# Altium footprint library PinHeaderMale.PcbLib: 4 footprints
Each footprint in its own frame and in the unit in brackets; x right, y up, seen from the top. Pads: shape width x height; smd on the part's side, far side on the other; paste and mask are expansions set on the pad; w line width, h text height; cw(c..) or ccw(c..) is an arc to the next point about the centre after c.
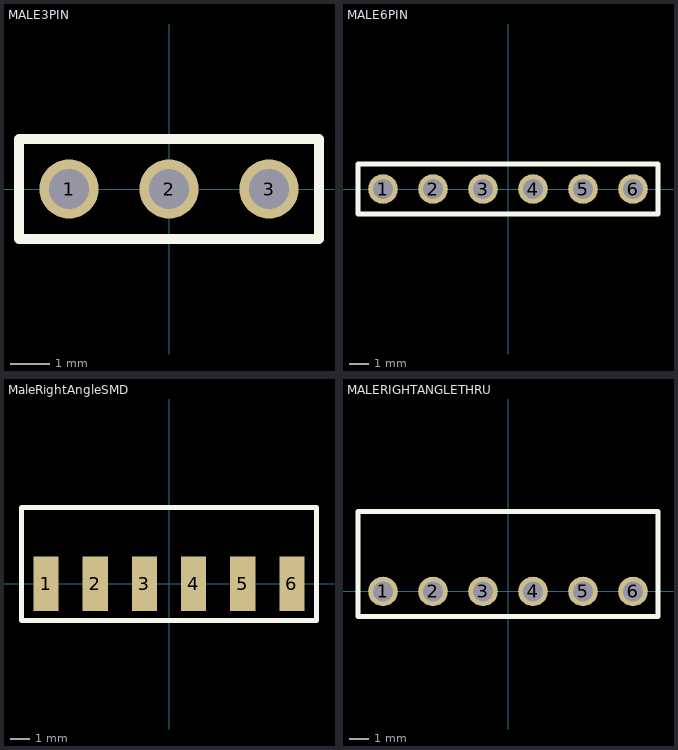
[diagram p0: the footprints below, top view; thin cyan lines are the x and y axes]

## MALE3PIN [mm]
pads (3):
  round 1.5 hole 1.02: 1(-2.54,0) 2(0,0) 3(2.54,0)
Top Overlay:
  lines w0.254: -3.81,-1.27 -3.81,1.27 3.81,1.27 3.81,-1.27 -3.81,-1.27
3D body: height 8.57, standoff -2.97, extent -3.81,-1.27 3.81,1.27

## MALE6PIN [mm]
pads (6):
  round 1.5 hole 1.02: 1(-6.35,0) 2(-3.81,0) 3(-1.27,0) 4(1.27,0) 5(3.81,0) 6(6.35,0)
Top Overlay:
  lines w0.254: -7.62,-1.27 7.62,-1.27 7.62,1.27 -7.62,1.27 -7.62,-1.27
3D body: height 8.54, standoff -3, extent -7.62,-1.245 7.62,1.245

## MaleRightAngleSMD [mm]
pads (6):
  rect 1.3x2.8 smd: 1(-6.35,0) 2(-3.81,0) 3(-1.27,0) 4(1.27,0) 5(3.81,0) 6(6.35,0)
Top Overlay:
  lines w0.254: -7.62,-1.905 7.62,-1.905 7.62,3.94 -7.62,3.94 -7.62,-1.905

## MALERIGHTANGLETHRU [mm]
pads (6):
  round 1.5 hole 1.02: 1(-6.35,0) 2(-3.81,0) 3(-1.27,0) 4(1.27,0) 5(3.81,0) 6(6.35,0)
Top Overlay:
  lines w0.254: -7.62,-1.27 -7.62,4.06 7.62,4.06 7.62,-1.27 -7.62,-1.27
3D body: height 2.51, standoff -3, extent -7.62,-0.254 7.62,9.876